# Altium schematic symbol library HCPL-M611.Schlib: 1 symbol
Pins are listed as number, name and electrical type; pins without a type are passive.

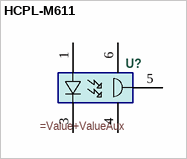
[diagram p0: symbol HCPL-M611]

## HCPL-M611
designator U?
=Description
pins: 1 ANODE, 3 CATHODE, 4 GND, 5 OUT, 6 VCC
2 alternate drawings of the same symbol